# EAGLE library part MA05-2 (library con-lstb)
PIN HEADER
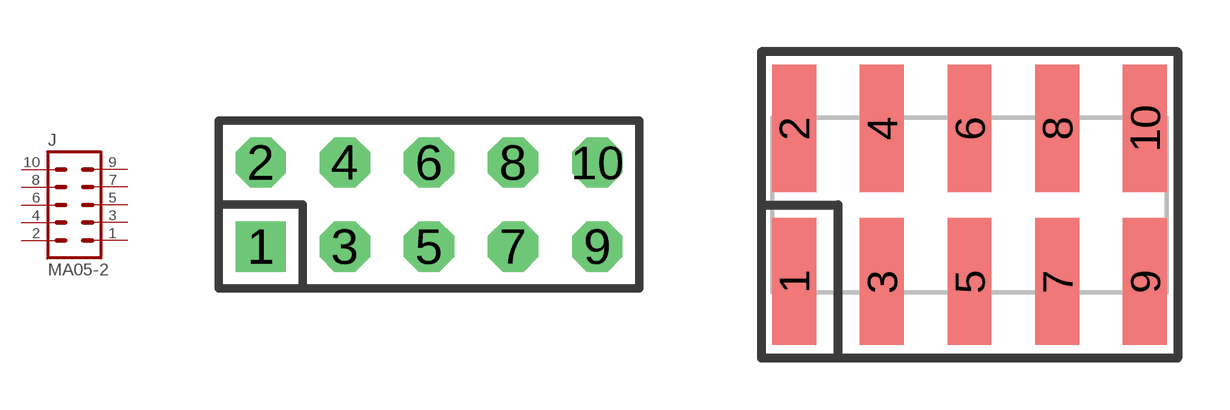
[diagram p1: symbol with the pads of MA05-2; footprints MA05-2, SMD-MA05-2]

Designator prefix J

## MA05-2  [MA05-2]
1  1  pas
2  2  pas
3  3  pas
4  4  pas
5  5  pas
6  6  pas
7  7  pas
8  8  pas
9  9  pas
10  10  pas

## MA05-2SMD  [SMD-MA05-2]
Pads as for MA05-2

## Footprint MA05-2 (pad centres in mm)
PIN HEADER
drill 1.016 square: 1 -5.08,-1.27
drill 1.016 octagon: 2 -5.08,1.27; 3 -2.54,-1.27; 4 -2.54,1.27; 5 0,-1.27; 6 0,1.27; 7 2.54,-1.27; 8 2.54,1.27; 9 5.08,-1.27; 10 5.08,1.27

## Footprint SMD-MA05-2 (pad centres in mm)
SMD Dual Row, Vertical - 0.1" Sullins, G XCXXDABN-M30 Series
smd 1.27 x 3.68: 1 -5.08,-2.223; 2 -5.08,2.223; 3 -2.54,-2.223; 4 -2.54,2.223; 5 0,-2.223; 6 0,2.223; 7 2.54,-2.223; 8 2.54,2.223; 9 5.08,-2.223; 10 5.08,2.223